# Altium integrated library Linear Technology Power Management Power Control.IntLib: 661 symbols (part 27 of 43)
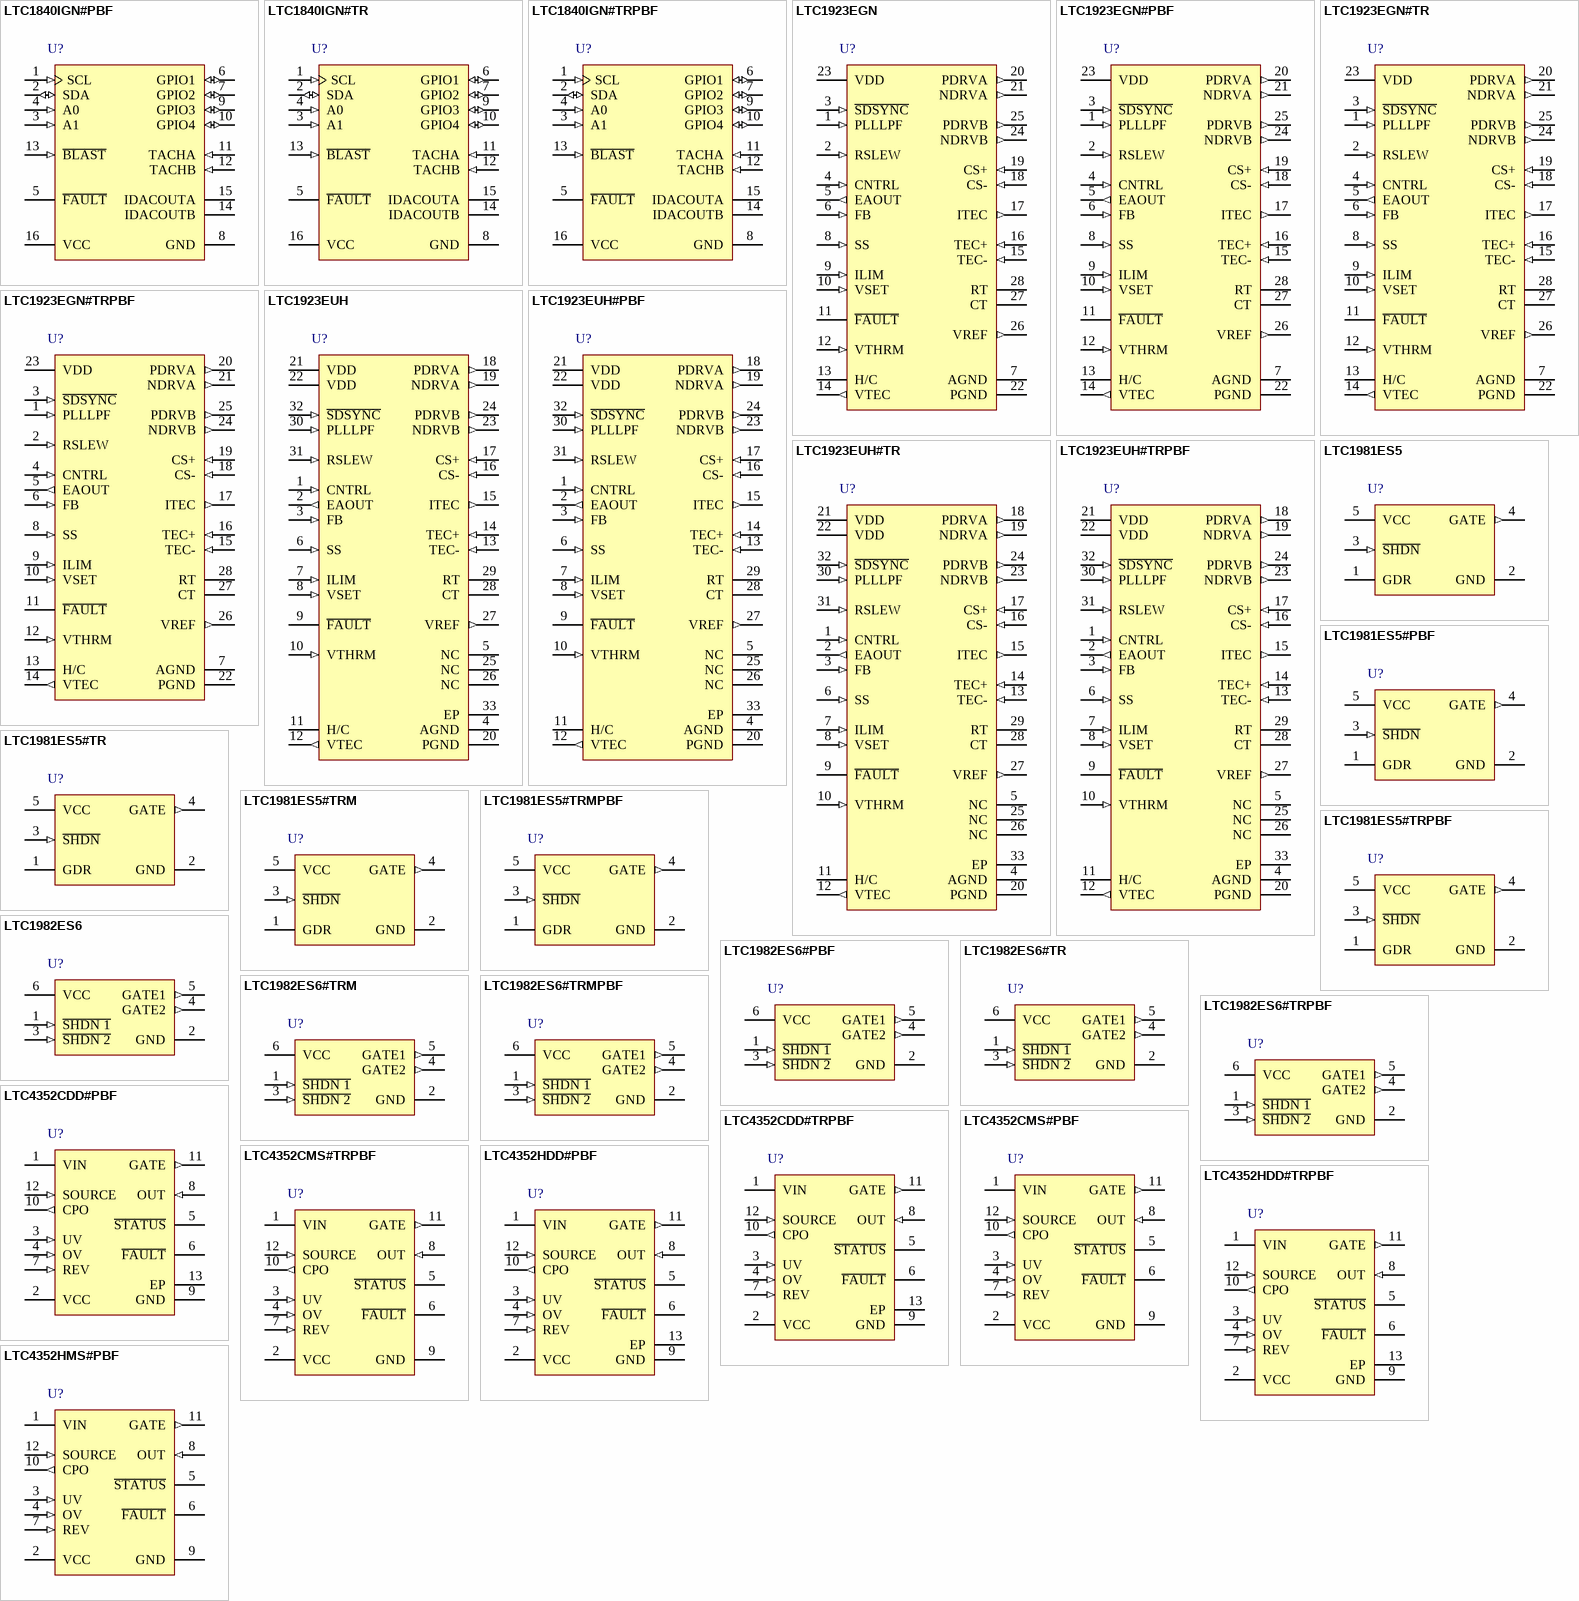
[diagram p45: symbols LTC1840IGN#PBF to LTC4352HMS#PBF]

## LTC1982ES6#PBF
designator U?
Single and Dual Micropower High Side Switch Controller, 1.8 to 5.5 V Vin, 6-pin SOT23 (S6-6), -40 to 85 degC, Pb-Free; Manufacturer: Linear Technology; PartNumber: LTC1982ES6#PBF; PackageVersion: Aug-07; PackageReference: S6-6; PackageDescription: 6-Pin Plastic SOT-23, Body 1.625 x 2.9 mm, Pitch 0.95 mm; Supplier 1: Newark; Supplier Part Number 1: 25R3032; RoHS: TRUE; Mounting Technology: Surface Mount; ComponentLink1Description: Manufacturer URL; ComponentLink1URL: http://www.linear.com/; ComponentLink2Description: Datasheet; ComponentLink2URL: http://cds.linear.com/docs/en/datasheet/19812fs.pdf; ComponentLink3Description: Package Specification; ComponentLink3URL: http://cds.linear.com/docs/en/datasheet/175435f.pdf
footprint LT-S6-6-SOT-23_N (SOT23, 6-Leads, Body 3x1.75mm, Pitch 0.95mm, IPC Medium Density)
footprint LT-S6-6-SOT-23_L (SOT23, 6-Leads, Body 3x1.75mm, Pitch 0.95mm, IPC High Density)
footprint LT-S6-6-SOT-23_M (SOT23, 6-Leads, Body 3x1.75mm, Pitch 0.95mm, IPC Low Density)
pins: 1 ~{SHDN 1} (in) "S\H\D\N\ \1\ Active Low Input. Used to shut down the GATE 1 charge pump and force the GATE 1 output pin to ground.", 2 GND (power) "Ground.", 3 ~{SHDN 2} (in) "S\H\D\N\ \2\ Active Low Input. Used to shut down the GATE 2 charge pump and force the GATE 2 output pin to ground", 4 GATE2 (out) "Gate Drive Output to an External High Side Switch. Fully enhanced by internal charge pump. Controlled by the S\H\D\N\ \2\ input pin. Output voltage on this pin will be approximately 2.5 times VCC or 7.25V, whichever is less", 5 GATE1 (out) "Gate Drive Output to an External High Side Switch. Fully enhanced by internal charge pump. Controlled by the S\H\D\N\ \1\ input pin. Output voltage on this pin will be approximately 2.5 times VCC or 7.25V, whichever is less.", 6 VCC (power) "Input Supply Voltage. Range from 1.8V to 5.5V."

## LTC1982ES6#TR
designator U?
Single and Dual Micropower High Side Switch Controller, 1.8 to 5.5 V Vin, 6-pin SOT23 (S6-6), -40 to 85 degC, Tape and Reel; Manufacturer: Linear Technology; PartNumber: LTC1982ES6#TR; PackageVersion: Aug-07; PackageReference: S6-6; PackageDescription: 6-Pin Plastic SOT-23, Body 1.625 x 2.9 mm, Pitch 0.95 mm; Supplier 1: Digi-Key; Supplier Part Number 1: LTC1982ES6#TR-ND; Supplier 2: Newark; Supplier Part Number 2: 56M4415; Packing: Tape and Reel; RoHS: FALSE; Mounting Technology: Surface Mount; ComponentLink1Description: Manufacturer URL; ComponentLink1URL: http://www.linear.com/; ComponentLink2Description: Datasheet; ComponentLink2URL: http://cds.linear.com/docs/en/datasheet/19812fs.pdf; ComponentLink3Description: Package Specification; ComponentLink3URL: http://cds.linear.com/docs/en/datasheet/175435f.pdf
footprint LT-S6-6-SOT-23_N (SOT23, 6-Leads, Body 3x1.75mm, Pitch 0.95mm, IPC Medium Density)
footprint LT-S6-6-SOT-23_L (SOT23, 6-Leads, Body 3x1.75mm, Pitch 0.95mm, IPC High Density)
footprint LT-S6-6-SOT-23_M (SOT23, 6-Leads, Body 3x1.75mm, Pitch 0.95mm, IPC Low Density)
pins: 1 ~{SHDN 1} (in) "S\H\D\N\ \1\ Active Low Input. Used to shut down the GATE 1 charge pump and force the GATE 1 output pin to ground.", 2 GND (power) "Ground.", 3 ~{SHDN 2} (in) "S\H\D\N\ \2\ Active Low Input. Used to shut down the GATE 2 charge pump and force the GATE 2 output pin to ground", 4 GATE2 (out) "Gate Drive Output to an External High Side Switch. Fully enhanced by internal charge pump. Controlled by the S\H\D\N\ \2\ input pin. Output voltage on this pin will be approximately 2.5 times VCC or 7.25V, whichever is less", 5 GATE1 (out) "Gate Drive Output to an External High Side Switch. Fully enhanced by internal charge pump. Controlled by the S\H\D\N\ \1\ input pin. Output voltage on this pin will be approximately 2.5 times VCC or 7.25V, whichever is less.", 6 VCC (power) "Input Supply Voltage. Range from 1.8V to 5.5V."

## LTC1982ES6#TRM
designator U?
Single and Dual Micropower High Side Switch Controller, 1.8 to 5.5 V Vin, 6-pin SOT23 (S6-6), -40 to 85 degC, Mini Tape and Reel; Manufacturer: Linear Technology; PartNumber: LTC1982ES6#TRM; PackageVersion: Aug-07; PackageReference: S6-6; PackageDescription: 6-Pin Plastic SOT-23, Body 1.625 x 2.9 mm, Pitch 0.95 mm; Supplier 1: Digi-Key; Supplier Part Number 1: LTC1982ES6#TRMTR-ND; Supplier 2: Digi-Key; Supplier Part Number 2: LTC1982ES6#TRMCT-ND; Packing: Mini Tape and Reel; RoHS: FALSE; Mounting Technology: Surface Mount; ComponentLink1Description: Manufacturer URL; ComponentLink1URL: http://www.linear.com/; ComponentLink2Description: Datasheet; ComponentLink2URL: http://cds.linear.com/docs/en/datasheet/19812fs.pdf; ComponentLink3Description: Package Specification; ComponentLink3URL: http://cds.linear.com/docs/en/datasheet/175435f.pdf
footprint LT-S6-6-SOT-23_N (SOT23, 6-Leads, Body 3x1.75mm, Pitch 0.95mm, IPC Medium Density)
footprint LT-S6-6-SOT-23_L (SOT23, 6-Leads, Body 3x1.75mm, Pitch 0.95mm, IPC High Density)
footprint LT-S6-6-SOT-23_M (SOT23, 6-Leads, Body 3x1.75mm, Pitch 0.95mm, IPC Low Density)
pins: 1 ~{SHDN 1} (in) "S\H\D\N\ \1\ Active Low Input. Used to shut down the GATE 1 charge pump and force the GATE 1 output pin to ground.", 2 GND (power) "Ground.", 3 ~{SHDN 2} (in) "S\H\D\N\ \2\ Active Low Input. Used to shut down the GATE 2 charge pump and force the GATE 2 output pin to ground", 4 GATE2 (out) "Gate Drive Output to an External High Side Switch. Fully enhanced by internal charge pump. Controlled by the S\H\D\N\ \2\ input pin. Output voltage on this pin will be approximately 2.5 times VCC or 7.25V, whichever is less", 5 GATE1 (out) "Gate Drive Output to an External High Side Switch. Fully enhanced by internal charge pump. Controlled by the S\H\D\N\ \1\ input pin. Output voltage on this pin will be approximately 2.5 times VCC or 7.25V, whichever is less.", 6 VCC (power) "Input Supply Voltage. Range from 1.8V to 5.5V."

## LTC1982ES6#TRMPBF
designator U?
Single and Dual Micropower High Side Switch Controller, 1.8 to 5.5 V Vin, 6-pin SOT23 (S6-6), -40 to 85 degC, Pb-Free, Mini Tape and Reel; Manufacturer: Linear Technology; PartNumber: LTC1982ES6#TRMPBF; PackageVersion: Aug-07; PackageReference: S6-6; PackageDescription: 6-Pin Plastic SOT-23, Body 1.625 x 2.9 mm, Pitch 0.95 mm; Supplier 1: Digi-Key; Supplier Part Number 1: LTC1982ES6#TRMPBFTR-ND; Supplier 2: Digi-Key; Supplier Part Number 2: LTC1982ES6#TRMPBFCT-ND; Supplier 3: Digi-Key; Supplier Part Number 3: LTC1982ES6#TRMPBFDKR-ND; Supplier 4: Newark; Supplier Part Number 4: 56M4417; Packing: Mini Tape and Reel; RoHS: TRUE; Mounting Technology: Surface Mount; ComponentLink1Description: Manufacturer URL; ComponentLink1URL: http://www.linear.com/; ComponentLink2Description: Datasheet; ComponentLink2URL: http://cds.linear.com/docs/en/datasheet/19812fs.pdf; ComponentLink3Description: Package Specification; ComponentLink3URL: http://cds.linear.com/docs/en/datasheet/175435f.pdf
footprint LT-S6-6-SOT-23_N (SOT23, 6-Leads, Body 3x1.75mm, Pitch 0.95mm, IPC Medium Density)
footprint LT-S6-6-SOT-23_L (SOT23, 6-Leads, Body 3x1.75mm, Pitch 0.95mm, IPC High Density)
footprint LT-S6-6-SOT-23_M (SOT23, 6-Leads, Body 3x1.75mm, Pitch 0.95mm, IPC Low Density)
pins: 1 ~{SHDN 1} (in) "S\H\D\N\ \1\ Active Low Input. Used to shut down the GATE 1 charge pump and force the GATE 1 output pin to ground.", 2 GND (power) "Ground.", 3 ~{SHDN 2} (in) "S\H\D\N\ \2\ Active Low Input. Used to shut down the GATE 2 charge pump and force the GATE 2 output pin to ground", 4 GATE2 (out) "Gate Drive Output to an External High Side Switch. Fully enhanced by internal charge pump. Controlled by the S\H\D\N\ \2\ input pin. Output voltage on this pin will be approximately 2.5 times VCC or 7.25V, whichever is less", 5 GATE1 (out) "Gate Drive Output to an External High Side Switch. Fully enhanced by internal charge pump. Controlled by the S\H\D\N\ \1\ input pin. Output voltage on this pin will be approximately 2.5 times VCC or 7.25V, whichever is less.", 6 VCC (power) "Input Supply Voltage. Range from 1.8V to 5.5V."

## LTC1982ES6#TRPBF
designator U?
Single and Dual Micropower High Side Switch Controller, 1.8 to 5.5 V Vin, 6-pin SOT23 (S6-6), -40 to 85 degC, Pb-Free, Tape and Reel; Manufacturer: Linear Technology; PartNumber: LTC1982ES6#TRPBF; PackageVersion: Aug-07; PackageReference: S6-6; PackageDescription: 6-Pin Plastic SOT-23, Body 1.625 x 2.9 mm, Pitch 0.95 mm; Supplier 1: Digi-Key; Supplier Part Number 1: LTC1982ES6#TRPBF-ND; Supplier 2: Newark; Supplier Part Number 2: 56M4418; Packing: Tape and Reel; RoHS: TRUE; Mounting Technology: Surface Mount; ComponentLink1Description: Manufacturer URL; ComponentLink1URL: http://www.linear.com/; ComponentLink2Description: Datasheet; ComponentLink2URL: http://cds.linear.com/docs/en/datasheet/19812fs.pdf; ComponentLink3Description: Package Specification; ComponentLink3URL: http://cds.linear.com/docs/en/datasheet/175435f.pdf
footprint LT-S6-6-SOT-23_N (SOT23, 6-Leads, Body 3x1.75mm, Pitch 0.95mm, IPC Medium Density)
footprint LT-S6-6-SOT-23_L (SOT23, 6-Leads, Body 3x1.75mm, Pitch 0.95mm, IPC High Density)
footprint LT-S6-6-SOT-23_M (SOT23, 6-Leads, Body 3x1.75mm, Pitch 0.95mm, IPC Low Density)
pins: 1 ~{SHDN 1} (in) "S\H\D\N\ \1\ Active Low Input. Used to shut down the GATE 1 charge pump and force the GATE 1 output pin to ground.", 2 GND (power) "Ground.", 3 ~{SHDN 2} (in) "S\H\D\N\ \2\ Active Low Input. Used to shut down the GATE 2 charge pump and force the GATE 2 output pin to ground", 4 GATE2 (out) "Gate Drive Output to an External High Side Switch. Fully enhanced by internal charge pump. Controlled by the S\H\D\N\ \2\ input pin. Output voltage on this pin will be approximately 2.5 times VCC or 7.25V, whichever is less", 5 GATE1 (out) "Gate Drive Output to an External High Side Switch. Fully enhanced by internal charge pump. Controlled by the S\H\D\N\ \1\ input pin. Output voltage on this pin will be approximately 2.5 times VCC or 7.25V, whichever is less.", 6 VCC (power) "Input Supply Voltage. Range from 1.8V to 5.5V."

## LTC4352CDD#PBF
designator U?
Low Voltage Ideal Diode Controller with Monitoring, 18 V Vin MAX, 12-pin SON (DD-12), 0 to 70 degC, Pb-Free; Manufacturer: Linear Technology; PartNumber: LTC4352CDD#PBF; Ideal Diode: Single, External, N-Channel; DatasheetVersion: Rev. A; PackageVersion: Rev. A, 06/2010; PackageReference: DD-12; PackageDescription: 12-Pin Plastic DFN, Body 3 x 3 mm, Pitch 0.45 mm; Supplier 1: Digi-Key; Supplier Part Number 1: LTC4352CDD#PBF-ND; Supplier 2: Farnell; Supplier Part Number 2: 1647756; Supplier 3: Newark; Supplier Part Number 3: 02P7606; RoHS: TRUE; Mounting Technology: Surface Mount; ComponentLink1Description: Manufacturer URL; ComponentLink1URL: http://www.linear.com/; ComponentLink2Description: Datasheet; ComponentLink2URL: http://cds.linear.com/docs/en/datasheet/4352fa.pdf; ComponentLink3Description: Package Specification; ComponentLink3URL: http://cds.linear.com/docs/en/packaging/DFN_12_05-08-1725.pdf
footprint LT-DD-12_V (SON, 12-Leads, Body 3x3mm, Pitch 0.45mm, Thermal Pad 2.38x1.65mm)
pins: 1 VIN (power) "Voltage Sense and Supply Input. Connect this pin to the power input side of the MOSFET. The low voltage supply VCC is generated from VIN. The voltage sensed at this pin is used to control the MOSFET gate.", 2 VCC (power) "Low Voltage Supply. Connect a 0.1uF capacitor from this pin to ground. When VIN >= 2.9V, this pin provides decoupling for an internal regulator that generates a 4.1V supply. For applications where VIN < 2.9V, connect an (See Datasheet)", 3 UV (in) "Undervoltage Comparator Input. Connect this pin to an external resistive divider from VIN. If the voltage at this pin falls below 0.5V, an undervoltage fault is detected and the MOSFET is turned off. The comparator has a (See Datasheet)", 4 OV (in) "Overvoltage Comparator Input. Connect this pin to an external resistive divider from VIN. If the voltage at this pin rises above 0.5V, an overvoltage fault is detected and the MOSFET is turned off. The comparator has a (See Datasheet)", 5 ~{STATUS} (oc) "MOSFET Status Output. This pin is pulled low by an open-drain output when the external MOSFET is on. An internal 10uA current source pulls this pin up to a diode below VCC. It may be pulled above VCC using an external (See Datasheet)", 6 ~{FAULT} (oc) "Fault Output. This pin is pulled low by an open-drain output when a fault occurs. This fault could either be an undervoltage fault, an overvoltage fault, or an open MOSFET fault. The external MOSFET is turned off for (See Datasheet)", 7 REV (in) "Reverse Current Enable Input. Connect this pin to GND for normal diode operation that blocks reverse current. Driving this pin above 1V fully turns on the MOSFET gate to allow reverse current. An internal 10uA current source (See Datasheet)", 8 OUT (in) "Output Voltage Sense Input. Connect this pin to the output side of the MOSFET. The voltage sensed at this pin is used to control the MOSFET gate.", 9 GND (power) "Device Ground.", 10 CPO (out) "Charge Pump Output. Connect a capacitor from this pin to the SOURCE pin. The value of this capacitor is approximately 10x the gate capacitance (CISS) of the MOSFET switch. The charge stored on this capacitor is used to (See Datasheet)", 11 GATE (out) "MOSFET Gate Drive Output. Connect this pin to the gate of the external N-channel MOSFET switch. An internal clamp limits the gate voltage to 6.1V above, and a diode below SOURCE. During fast turn-on a 1.5A pull-up charges (See Datasheet)", 12 SOURCE (in) "MOSFET Gate Drive Return. Connect this pin to the source of the external N-channel MOSFET switch.", 13 EP (power) "Exposed pad may be left open or connected to device ground."

## LTC4352CDD#TRPBF
designator U?
Low Voltage Ideal Diode Controller with Monitoring, 18 V Vin MAX, 12-pin SON (DD-12), 0 to 70 degC, Pb-Free, Tape and Reel; Manufacturer: Linear Technology; PartNumber: LTC4352CDD#TRPBF; Ideal Diode: Single, External, N-Channel; DatasheetVersion: Rev. A; PackageVersion: Rev. A, 06/2010; PackageReference: DD-12; PackageDescription: 12-Pin Plastic DFN, Body 3 x 3 mm, Pitch 0.45 mm; Supplier 1: Digi-Key; Supplier Part Number 1: LTC4352CDD#TRPBFTR-ND; Supplier 2: Digi-Key; Supplier Part Number 2: LTC4352CDD#TRPBFCT-ND; Supplier 3: Digi-Key; Supplier Part Number 3: LTC4352CDD#TRPBFDKR-ND; Supplier 4: Newark; Supplier Part Number 4: 02P7607; Packing: Tape and Reel; RoHS: TRUE; Mounting Technology: Surface Mount; ComponentLink1Description: Manufacturer URL; ComponentLink1URL: http://www.linear.com/; ComponentLink2Description: Datasheet; ComponentLink2URL: http://cds.linear.com/docs/en/datasheet/4352fa.pdf; ComponentLink3Description: Package Specification; ComponentLink3URL: http://cds.linear.com/docs/en/packaging/DFN_12_05-08-1725.pdf
footprint LT-DD-12_V (SON, 12-Leads, Body 3x3mm, Pitch 0.45mm, Thermal Pad 2.38x1.65mm)
pins: 1 VIN (power) "Voltage Sense and Supply Input. Connect this pin to the power input side of the MOSFET. The low voltage supply VCC is generated from VIN. The voltage sensed at this pin is used to control the MOSFET gate.", 2 VCC (power) "Low Voltage Supply. Connect a 0.1uF capacitor from this pin to ground. When VIN >= 2.9V, this pin provides decoupling for an internal regulator that generates a 4.1V supply. For applications where VIN < 2.9V, connect an (See Datasheet)", 3 UV (in) "Undervoltage Comparator Input. Connect this pin to an external resistive divider from VIN. If the voltage at this pin falls below 0.5V, an undervoltage fault is detected and the MOSFET is turned off. The comparator has a (See Datasheet)", 4 OV (in) "Overvoltage Comparator Input. Connect this pin to an external resistive divider from VIN. If the voltage at this pin rises above 0.5V, an overvoltage fault is detected and the MOSFET is turned off. The comparator has a (See Datasheet)", 5 ~{STATUS} (oc) "MOSFET Status Output. This pin is pulled low by an open-drain output when the external MOSFET is on. An internal 10uA current source pulls this pin up to a diode below VCC. It may be pulled above VCC using an external (See Datasheet)", 6 ~{FAULT} (oc) "Fault Output. This pin is pulled low by an open-drain output when a fault occurs. This fault could either be an undervoltage fault, an overvoltage fault, or an open MOSFET fault. The external MOSFET is turned off for (See Datasheet)", 7 REV (in) "Reverse Current Enable Input. Connect this pin to GND for normal diode operation that blocks reverse current. Driving this pin above 1V fully turns on the MOSFET gate to allow reverse current. An internal 10uA current source (See Datasheet)", 8 OUT (in) "Output Voltage Sense Input. Connect this pin to the output side of the MOSFET. The voltage sensed at this pin is used to control the MOSFET gate.", 9 GND (power) "Device Ground.", 10 CPO (out) "Charge Pump Output. Connect a capacitor from this pin to the SOURCE pin. The value of this capacitor is approximately 10x the gate capacitance (CISS) of the MOSFET switch. The charge stored on this capacitor is used to (See Datasheet)", 11 GATE (out) "MOSFET Gate Drive Output. Connect this pin to the gate of the external N-channel MOSFET switch. An internal clamp limits the gate voltage to 6.1V above, and a diode below SOURCE. During fast turn-on a 1.5A pull-up charges (See Datasheet)", 12 SOURCE (in) "MOSFET Gate Drive Return. Connect this pin to the source of the external N-channel MOSFET switch.", 13 EP (power) "Exposed pad may be left open or connected to device ground."

## LTC4352CMS#PBF
designator U?
Low Voltage Ideal Diode Controller with Monitoring, 18 V Vin MAX, 12-pin SOP (MS-12), 0 to 70 degC, Pb-Free; Manufacturer: Linear Technology; PartNumber: LTC4352CMS#PBF; Ideal Diode: Single, External, N-Channel; DatasheetVersion: Rev. A; PackageVersion: Rev. A, 05/2013; PackageReference: MS-12; PackageDescription: 12-Pin Plastic MSOP, Body 4.039 x 3 mm, Pitch 0.65 mm; Supplier 1: Digi-Key; Supplier Part Number 1: LTC4352CMS#PBF-ND; Supplier 2: Farnell; Supplier Part Number 2: 1647758; Supplier 3: Newark; Supplier Part Number 3: 02P7608; RoHS: TRUE; Mounting Technology: Surface Mount; ComponentLink1Description: Manufacturer URL; ComponentLink1URL: http://www.linear.com/; ComponentLink2Description: Datasheet; ComponentLink2URL: http://cds.linear.com/docs/en/datasheet/4352fa.pdf; ComponentLink3Description: Package Specification; ComponentLink3URL: http://cds.linear.com/docs/en/packaging/05081668_A_MS12.pdf
footprint LT-MS-12_N (SOP, 12-Leads, Body 4.1x3.1mm, Pitch 0.65mm, IPC Medium Density)
footprint LT-MS-12_L (SOP, 12-Leads, Body 4.1x3.1mm, Pitch 0.65mm, IPC High Density)
footprint LT-MS-12_M (SOP, 12-Leads, Body 4.1x3.1mm, Pitch 0.65mm, IPC Low Density)
pins: 1 VIN (power) "Voltage Sense and Supply Input. Connect this pin to the power input side of the MOSFET. The low voltage supply VCC is generated from VIN. The voltage sensed at this pin is used to control the MOSFET gate.", 2 VCC (power) "Low Voltage Supply. Connect a 0.1uF capacitor from this pin to ground. When VIN >= 2.9V, this pin provides decoupling for an internal regulator that generates a 4.1V supply. For applications where VIN < 2.9V, connect an (See Datasheet)", 3 UV (in) "Undervoltage Comparator Input. Connect this pin to an external resistive divider from VIN. If the voltage at this pin falls below 0.5V, an undervoltage fault is detected and the MOSFET is turned off. The comparator has a (See Datasheet)", 4 OV (in) "Overvoltage Comparator Input. Connect this pin to an external resistive divider from VIN. If the voltage at this pin rises above 0.5V, an overvoltage fault is detected and the MOSFET is turned off. The comparator has a (See Datasheet)", 5 ~{STATUS} (oc) "MOSFET Status Output. This pin is pulled low by an open-drain output when the external MOSFET is on. An internal 10uA current source pulls this pin up to a diode below VCC. It may be pulled above VCC using an external (See Datasheet)", 6 ~{FAULT} (oc) "Fault Output. This pin is pulled low by an open-drain output when a fault occurs. This fault could either be an undervoltage fault, an overvoltage fault, or an open MOSFET fault. The external MOSFET is turned off for (See Datasheet)", 7 REV (in) "Reverse Current Enable Input. Connect this pin to GND for normal diode operation that blocks reverse current. Driving this pin above 1V fully turns on the MOSFET gate to allow reverse current. An internal 10uA current source (See Datasheet)", 8 OUT (in) "Output Voltage Sense Input. Connect this pin to the output side of the MOSFET. The voltage sensed at this pin is used to control the MOSFET gate.", 9 GND (power) "Device Ground.", 10 CPO (out) "Charge Pump Output. Connect a capacitor from this pin to the SOURCE pin. The value of this capacitor is approximately 10x the gate capacitance (CISS) of the MOSFET switch. The charge stored on this capacitor is used to (See Datasheet)", 11 GATE (out) "MOSFET Gate Drive Output. Connect this pin to the gate of the external N-channel MOSFET switch. An internal clamp limits the gate voltage to 6.1V above, and a diode below SOURCE. During fast turn-on a 1.5A pull-up charges (See Datasheet)", 12 SOURCE (in) "MOSFET Gate Drive Return. Connect this pin to the source of the external N-channel MOSFET switch."

## LTC4352CMS#TRPBF
designator U?
Low Voltage Ideal Diode Controller with Monitoring, 18 V Vin MAX, 12-pin SOP (MS-12), 0 to 70 degC, Pb-Free, Tape and Reel; Manufacturer: Linear Technology; PartNumber: LTC4352CMS#TRPBF; Ideal Diode: Single, External, N-Channel; DatasheetVersion: Rev. A; PackageVersion: Rev. A, 05/2013; PackageReference: MS-12; PackageDescription: 12-Pin Plastic MSOP, Body 4.039 x 3 mm, Pitch 0.65 mm; Supplier 1: Digi-Key; Supplier Part Number 1: LTC4352CMS#TRPBF-ND; Supplier 2: Newark; Supplier Part Number 2: 02P7609; Packing: Tape and Reel; RoHS: TRUE; Mounting Technology: Surface Mount; ComponentLink1Description: Manufacturer URL; ComponentLink1URL: http://www.linear.com/; ComponentLink2Description: Datasheet; ComponentLink2URL: http://cds.linear.com/docs/en/datasheet/4352fa.pdf; ComponentLink3Description: Package Specification; ComponentLink3URL: http://cds.linear.com/docs/en/packaging/05081668_A_MS12.pdf
footprint LT-MS-12_N (SOP, 12-Leads, Body 4.1x3.1mm, Pitch 0.65mm, IPC Medium Density)
footprint LT-MS-12_L (SOP, 12-Leads, Body 4.1x3.1mm, Pitch 0.65mm, IPC High Density)
footprint LT-MS-12_M (SOP, 12-Leads, Body 4.1x3.1mm, Pitch 0.65mm, IPC Low Density)
pins: 1 VIN (power) "Voltage Sense and Supply Input. Connect this pin to the power input side of the MOSFET. The low voltage supply VCC is generated from VIN. The voltage sensed at this pin is used to control the MOSFET gate.", 2 VCC (power) "Low Voltage Supply. Connect a 0.1uF capacitor from this pin to ground. When VIN >= 2.9V, this pin provides decoupling for an internal regulator that generates a 4.1V supply. For applications where VIN < 2.9V, connect an (See Datasheet)", 3 UV (in) "Undervoltage Comparator Input. Connect this pin to an external resistive divider from VIN. If the voltage at this pin falls below 0.5V, an undervoltage fault is detected and the MOSFET is turned off. The comparator has a (See Datasheet)", 4 OV (in) "Overvoltage Comparator Input. Connect this pin to an external resistive divider from VIN. If the voltage at this pin rises above 0.5V, an overvoltage fault is detected and the MOSFET is turned off. The comparator has a (See Datasheet)", 5 ~{STATUS} (oc) "MOSFET Status Output. This pin is pulled low by an open-drain output when the external MOSFET is on. An internal 10uA current source pulls this pin up to a diode below VCC. It may be pulled above VCC using an external (See Datasheet)", 6 ~{FAULT} (oc) "Fault Output. This pin is pulled low by an open-drain output when a fault occurs. This fault could either be an undervoltage fault, an overvoltage fault, or an open MOSFET fault. The external MOSFET is turned off for (See Datasheet)", 7 REV (in) "Reverse Current Enable Input. Connect this pin to GND for normal diode operation that blocks reverse current. Driving this pin above 1V fully turns on the MOSFET gate to allow reverse current. An internal 10uA current source (See Datasheet)", 8 OUT (in) "Output Voltage Sense Input. Connect this pin to the output side of the MOSFET. The voltage sensed at this pin is used to control the MOSFET gate.", 9 GND (power) "Device Ground.", 10 CPO (out) "Charge Pump Output. Connect a capacitor from this pin to the SOURCE pin. The value of this capacitor is approximately 10x the gate capacitance (CISS) of the MOSFET switch. The charge stored on this capacitor is used to (See Datasheet)", 11 GATE (out) "MOSFET Gate Drive Output. Connect this pin to the gate of the external N-channel MOSFET switch. An internal clamp limits the gate voltage to 6.1V above, and a diode below SOURCE. During fast turn-on a 1.5A pull-up charges (See Datasheet)", 12 SOURCE (in) "MOSFET Gate Drive Return. Connect this pin to the source of the external N-channel MOSFET switch."

## LTC4352HDD#PBF
designator U?
Low Voltage Ideal Diode Controller with Monitoring, 18 V Vin MAX, 12-pin SON (DD-12), -40 to 150 degC, Pb-Free; Manufacturer: Linear Technology; PartNumber: LTC4352HDD#PBF; Ideal Diode: Single, External, N-Channel; DatasheetVersion: Rev. A; PackageVersion: Rev. A, 06/2010; PackageReference: DD-12; PackageDescription: 12-Pin Plastic DFN, Body 3 x 3 mm, Pitch 0.45 mm; Supplier 1: Digi-Key; Supplier Part Number 1: LTC4352HDD#PBF-ND; Supplier 2: Newark; Supplier Part Number 2: 27T4239; RoHS: TRUE; Mounting Technology: Surface Mount; ComponentLink1Description: Manufacturer URL; ComponentLink1URL: http://www.linear.com/; ComponentLink2Description: Datasheet; ComponentLink2URL: http://cds.linear.com/docs/en/datasheet/4352fa.pdf; ComponentLink3Description: Package Specification; ComponentLink3URL: http://cds.linear.com/docs/en/packaging/DFN_12_05-08-1725.pdf
footprint LT-DD-12_V (SON, 12-Leads, Body 3x3mm, Pitch 0.45mm, Thermal Pad 2.38x1.65mm)
pins: 1 VIN (power) "Voltage Sense and Supply Input. Connect this pin to the power input side of the MOSFET. The low voltage supply VCC is generated from VIN. The voltage sensed at this pin is used to control the MOSFET gate.", 2 VCC (power) "Low Voltage Supply. Connect a 0.1uF capacitor from this pin to ground. When VIN >= 2.9V, this pin provides decoupling for an internal regulator that generates a 4.1V supply. For applications where VIN < 2.9V, connect an (See Datasheet)", 3 UV (in) "Undervoltage Comparator Input. Connect this pin to an external resistive divider from VIN. If the voltage at this pin falls below 0.5V, an undervoltage fault is detected and the MOSFET is turned off. The comparator has a (See Datasheet)", 4 OV (in) "Overvoltage Comparator Input. Connect this pin to an external resistive divider from VIN. If the voltage at this pin rises above 0.5V, an overvoltage fault is detected and the MOSFET is turned off. The comparator has a (See Datasheet)", 5 ~{STATUS} (oc) "MOSFET Status Output. This pin is pulled low by an open-drain output when the external MOSFET is on. An internal 10uA current source pulls this pin up to a diode below VCC. It may be pulled above VCC using an external (See Datasheet)", 6 ~{FAULT} (oc) "Fault Output. This pin is pulled low by an open-drain output when a fault occurs. This fault could either be an undervoltage fault, an overvoltage fault, or an open MOSFET fault. The external MOSFET is turned off for (See Datasheet)", 7 REV (in) "Reverse Current Enable Input. Connect this pin to GND for normal diode operation that blocks reverse current. Driving this pin above 1V fully turns on the MOSFET gate to allow reverse current. An internal 10uA current source (See Datasheet)", 8 OUT (in) "Output Voltage Sense Input. Connect this pin to the output side of the MOSFET. The voltage sensed at this pin is used to control the MOSFET gate.", 9 GND (power) "Device Ground.", 10 CPO (out) "Charge Pump Output. Connect a capacitor from this pin to the SOURCE pin. The value of this capacitor is approximately 10x the gate capacitance (CISS) of the MOSFET switch. The charge stored on this capacitor is used to (See Datasheet)", 11 GATE (out) "MOSFET Gate Drive Output. Connect this pin to the gate of the external N-channel MOSFET switch. An internal clamp limits the gate voltage to 6.1V above, and a diode below SOURCE. During fast turn-on a 1.5A pull-up charges (See Datasheet)", 12 SOURCE (in) "MOSFET Gate Drive Return. Connect this pin to the source of the external N-channel MOSFET switch.", 13 EP (power) "Exposed pad may be left open or connected to device ground."

## LTC4352HDD#TRPBF
designator U?
Low Voltage Ideal Diode Controller with Monitoring, 18 V Vin MAX, 12-pin SON (DD-12), -40 to 150 degC, Pb-Free, Tape and Reel; Manufacturer: Linear Technology; PartNumber: LTC4352HDD#TRPBF; Ideal Diode: Single, External, N-Channel; DatasheetVersion: Rev. A; PackageVersion: Rev. A, 06/2010; PackageReference: DD-12; PackageDescription: 12-Pin Plastic DFN, Body 3 x 3 mm, Pitch 0.45 mm; Supplier 1: Digi-Key; Supplier Part Number 1: LTC4352HDD#TRPBF-ND; Packing: Tape and Reel; RoHS: TRUE; Mounting Technology: Surface Mount; ComponentLink1Description: Manufacturer URL; ComponentLink1URL: http://www.linear.com/; ComponentLink2Description: Datasheet; ComponentLink2URL: http://cds.linear.com/docs/en/datasheet/4352fa.pdf; ComponentLink3Description: Package Specification; ComponentLink3URL: http://cds.linear.com/docs/en/packaging/DFN_12_05-08-1725.pdf
footprint LT-DD-12_V (SON, 12-Leads, Body 3x3mm, Pitch 0.45mm, Thermal Pad 2.38x1.65mm)
pins: 1 VIN (power) "Voltage Sense and Supply Input. Connect this pin to the power input side of the MOSFET. The low voltage supply VCC is generated from VIN. The voltage sensed at this pin is used to control the MOSFET gate.", 2 VCC (power) "Low Voltage Supply. Connect a 0.1uF capacitor from this pin to ground. When VIN >= 2.9V, this pin provides decoupling for an internal regulator that generates a 4.1V supply. For applications where VIN < 2.9V, connect an (See Datasheet)", 3 UV (in) "Undervoltage Comparator Input. Connect this pin to an external resistive divider from VIN. If the voltage at this pin falls below 0.5V, an undervoltage fault is detected and the MOSFET is turned off. The comparator has a (See Datasheet)", 4 OV (in) "Overvoltage Comparator Input. Connect this pin to an external resistive divider from VIN. If the voltage at this pin rises above 0.5V, an overvoltage fault is detected and the MOSFET is turned off. The comparator has a (See Datasheet)", 5 ~{STATUS} (oc) "MOSFET Status Output. This pin is pulled low by an open-drain output when the external MOSFET is on. An internal 10uA current source pulls this pin up to a diode below VCC. It may be pulled above VCC using an external (See Datasheet)", 6 ~{FAULT} (oc) "Fault Output. This pin is pulled low by an open-drain output when a fault occurs. This fault could either be an undervoltage fault, an overvoltage fault, or an open MOSFET fault. The external MOSFET is turned off for (See Datasheet)", 7 REV (in) "Reverse Current Enable Input. Connect this pin to GND for normal diode operation that blocks reverse current. Driving this pin above 1V fully turns on the MOSFET gate to allow reverse current. An internal 10uA current source (See Datasheet)", 8 OUT (in) "Output Voltage Sense Input. Connect this pin to the output side of the MOSFET. The voltage sensed at this pin is used to control the MOSFET gate.", 9 GND (power) "Device Ground.", 10 CPO (out) "Charge Pump Output. Connect a capacitor from this pin to the SOURCE pin. The value of this capacitor is approximately 10x the gate capacitance (CISS) of the MOSFET switch. The charge stored on this capacitor is used to (See Datasheet)", 11 GATE (out) "MOSFET Gate Drive Output. Connect this pin to the gate of the external N-channel MOSFET switch. An internal clamp limits the gate voltage to 6.1V above, and a diode below SOURCE. During fast turn-on a 1.5A pull-up charges (See Datasheet)", 12 SOURCE (in) "MOSFET Gate Drive Return. Connect this pin to the source of the external N-channel MOSFET switch.", 13 EP (power) "Exposed pad may be left open or connected to device ground."

## LTC4352HMS#PBF
designator U?
Low Voltage Ideal Diode Controller with Monitoring, 18 V Vin MAX, 12-pin SOP (MS-12), -40 to 150 degC, Pb-Free; Manufacturer: Linear Technology; PartNumber: LTC4352HMS#PBF; Ideal Diode: Single, External, N-Channel; DatasheetVersion: Rev. A; PackageVersion: Rev. A, 05/2013; PackageReference: MS-12; PackageDescription: 12-Pin Plastic MSOP, Body 4.039 x 3 mm, Pitch 0.65 mm; Supplier 1: Digi-Key; Supplier Part Number 1: LTC4352HMS#PBF-ND; Supplier 2: Farnell; Supplier Part Number 2: 2295289; RoHS: TRUE; Mounting Technology: Surface Mount; ComponentLink1Description: Manufacturer URL; ComponentLink1URL: http://www.linear.com/; ComponentLink2Description: Datasheet; ComponentLink2URL: http://cds.linear.com/docs/en/datasheet/4352fa.pdf; ComponentLink3Description: Package Specification; ComponentLink3URL: http://cds.linear.com/docs/en/packaging/05081668_A_MS12.pdf
footprint LT-MS-12_N (SOP, 12-Leads, Body 4.1x3.1mm, Pitch 0.65mm, IPC Medium Density)
footprint LT-MS-12_L (SOP, 12-Leads, Body 4.1x3.1mm, Pitch 0.65mm, IPC High Density)
footprint LT-MS-12_M (SOP, 12-Leads, Body 4.1x3.1mm, Pitch 0.65mm, IPC Low Density)
pins: 1 VIN (power) "Voltage Sense and Supply Input. Connect this pin to the power input side of the MOSFET. The low voltage supply VCC is generated from VIN. The voltage sensed at this pin is used to control the MOSFET gate.", 2 VCC (power) "Low Voltage Supply. Connect a 0.1uF capacitor from this pin to ground. When VIN >= 2.9V, this pin provides decoupling for an internal regulator that generates a 4.1V supply. For applications where VIN < 2.9V, connect an (See Datasheet)", 3 UV (in) "Undervoltage Comparator Input. Connect this pin to an external resistive divider from VIN. If the voltage at this pin falls below 0.5V, an undervoltage fault is detected and the MOSFET is turned off. The comparator has a (See Datasheet)", 4 OV (in) "Overvoltage Comparator Input. Connect this pin to an external resistive divider from VIN. If the voltage at this pin rises above 0.5V, an overvoltage fault is detected and the MOSFET is turned off. The comparator has a (See Datasheet)", 5 ~{STATUS} (oc) "MOSFET Status Output. This pin is pulled low by an open-drain output when the external MOSFET is on. An internal 10uA current source pulls this pin up to a diode below VCC. It may be pulled above VCC using an external (See Datasheet)", 6 ~{FAULT} (oc) "Fault Output. This pin is pulled low by an open-drain output when a fault occurs. This fault could either be an undervoltage fault, an overvoltage fault, or an open MOSFET fault. The external MOSFET is turned off for (See Datasheet)", 7 REV (in) "Reverse Current Enable Input. Connect this pin to GND for normal diode operation that blocks reverse current. Driving this pin above 1V fully turns on the MOSFET gate to allow reverse current. An internal 10uA current source (See Datasheet)", 8 OUT (in) "Output Voltage Sense Input. Connect this pin to the output side of the MOSFET. The voltage sensed at this pin is used to control the MOSFET gate.", 9 GND (power) "Device Ground.", 10 CPO (out) "Charge Pump Output. Connect a capacitor from this pin to the SOURCE pin. The value of this capacitor is approximately 10x the gate capacitance (CISS) of the MOSFET switch. The charge stored on this capacitor is used to (See Datasheet)", 11 GATE (out) "MOSFET Gate Drive Output. Connect this pin to the gate of the external N-channel MOSFET switch. An internal clamp limits the gate voltage to 6.1V above, and a diode below SOURCE. During fast turn-on a 1.5A pull-up charges (See Datasheet)", 12 SOURCE (in) "MOSFET Gate Drive Return. Connect this pin to the source of the external N-channel MOSFET switch."

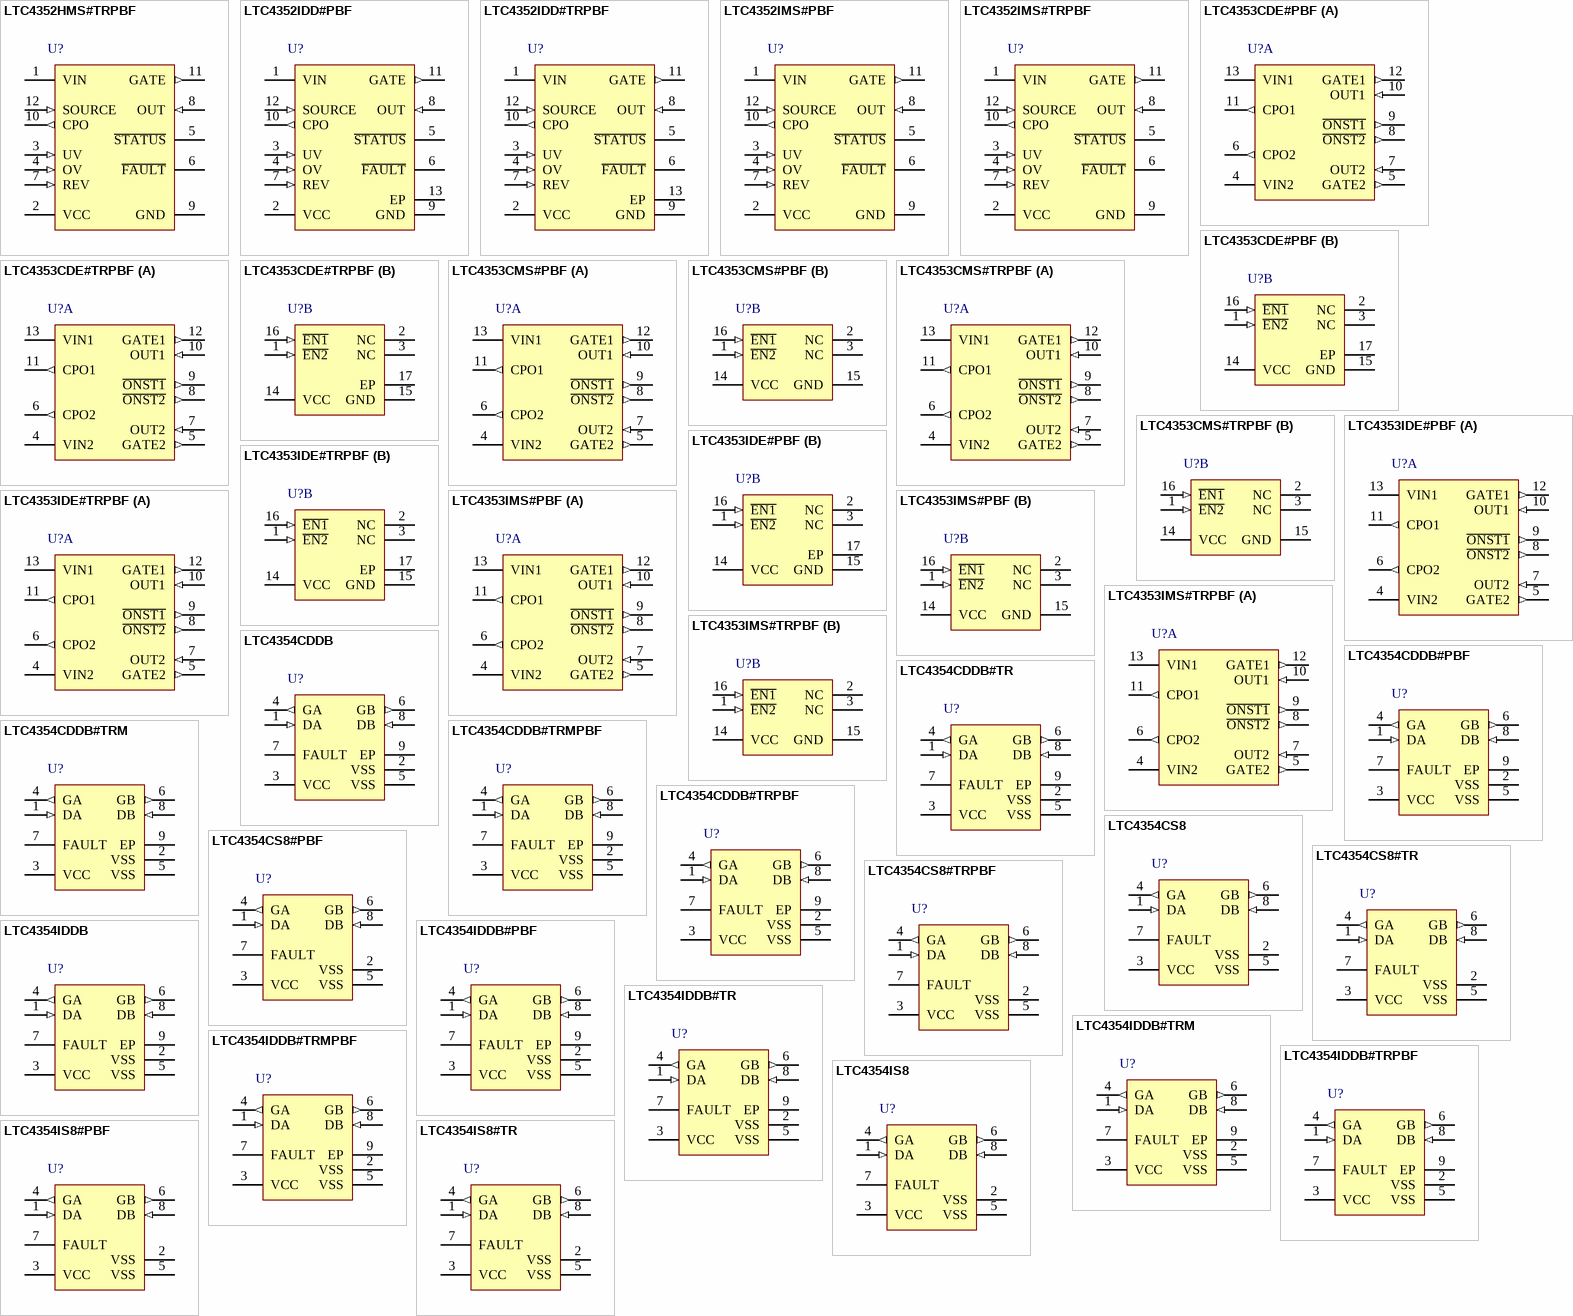
[diagram p13: symbols LTC4352HMS#TRPBF to LTC4354IS8#TR]

## LTC4352HMS#TRPBF
designator U?
Low Voltage Ideal Diode Controller with Monitoring, 18 V Vin MAX, 12-pin SOP (MS-12), -40 to 150 degC, Pb-Free, Tape and Reel; Manufacturer: Linear Technology; PartNumber: LTC4352HMS#TRPBF; Ideal Diode: Single, External, N-Channel; DatasheetVersion: Rev. A; PackageVersion: Rev. A, 05/2013; PackageReference: MS-12; PackageDescription: 12-Pin Plastic MSOP, Body 4.039 x 3 mm, Pitch 0.65 mm; Supplier 1: Digi-Key; Supplier Part Number 1: LTC4352HMS#TRPBF-ND; Packing: Tape and Reel; RoHS: TRUE; Mounting Technology: Surface Mount; ComponentLink1Description: Manufacturer URL; ComponentLink1URL: http://www.linear.com/; ComponentLink2Description: Datasheet; ComponentLink2URL: http://cds.linear.com/docs/en/datasheet/4352fa.pdf; ComponentLink3Description: Package Specification; ComponentLink3URL: http://cds.linear.com/docs/en/packaging/05081668_A_MS12.pdf
footprint LT-MS-12_N (SOP, 12-Leads, Body 4.1x3.1mm, Pitch 0.65mm, IPC Medium Density)
footprint LT-MS-12_L (SOP, 12-Leads, Body 4.1x3.1mm, Pitch 0.65mm, IPC High Density)
footprint LT-MS-12_M (SOP, 12-Leads, Body 4.1x3.1mm, Pitch 0.65mm, IPC Low Density)
pins: 1 VIN (power) "Voltage Sense and Supply Input. Connect this pin to the power input side of the MOSFET. The low voltage supply VCC is generated from VIN. The voltage sensed at this pin is used to control the MOSFET gate.", 2 VCC (power) "Low Voltage Supply. Connect a 0.1uF capacitor from this pin to ground. When VIN >= 2.9V, this pin provides decoupling for an internal regulator that generates a 4.1V supply. For applications where VIN < 2.9V, connect an (See Datasheet)", 3 UV (in) "Undervoltage Comparator Input. Connect this pin to an external resistive divider from VIN. If the voltage at this pin falls below 0.5V, an undervoltage fault is detected and the MOSFET is turned off. The comparator has a (See Datasheet)", 4 OV (in) "Overvoltage Comparator Input. Connect this pin to an external resistive divider from VIN. If the voltage at this pin rises above 0.5V, an overvoltage fault is detected and the MOSFET is turned off. The comparator has a (See Datasheet)", 5 ~{STATUS} (oc) "MOSFET Status Output. This pin is pulled low by an open-drain output when the external MOSFET is on. An internal 10uA current source pulls this pin up to a diode below VCC. It may be pulled above VCC using an external (See Datasheet)", 6 ~{FAULT} (oc) "Fault Output. This pin is pulled low by an open-drain output when a fault occurs. This fault could either be an undervoltage fault, an overvoltage fault, or an open MOSFET fault. The external MOSFET is turned off for (See Datasheet)", 7 REV (in) "Reverse Current Enable Input. Connect this pin to GND for normal diode operation that blocks reverse current. Driving this pin above 1V fully turns on the MOSFET gate to allow reverse current. An internal 10uA current source (See Datasheet)", 8 OUT (in) "Output Voltage Sense Input. Connect this pin to the output side of the MOSFET. The voltage sensed at this pin is used to control the MOSFET gate.", 9 GND (power) "Device Ground.", 10 CPO (out) "Charge Pump Output. Connect a capacitor from this pin to the SOURCE pin. The value of this capacitor is approximately 10x the gate capacitance (CISS) of the MOSFET switch. The charge stored on this capacitor is used to (See Datasheet)", 11 GATE (out) "MOSFET Gate Drive Output. Connect this pin to the gate of the external N-channel MOSFET switch. An internal clamp limits the gate voltage to 6.1V above, and a diode below SOURCE. During fast turn-on a 1.5A pull-up charges (See Datasheet)", 12 SOURCE (in) "MOSFET Gate Drive Return. Connect this pin to the source of the external N-channel MOSFET switch."

## LTC4352IDD#PBF
designator U?
Low Voltage Ideal Diode Controller with Monitoring, 18 V Vin MAX, 12-pin SON (DD-12), -40 to 85 degC, Pb-Free; Manufacturer: Linear Technology; PartNumber: LTC4352IDD#PBF; Ideal Diode: Single, External, N-Channel; DatasheetVersion: Rev. A; PackageVersion: Rev. A, 06/2010; PackageReference: DD-12; PackageDescription: 12-Pin Plastic DFN, Body 3 x 3 mm, Pitch 0.45 mm; Supplier 1: Digi-Key; Supplier Part Number 1: LTC4352IDD#PBF-ND; Supplier 2: Farnell; Supplier Part Number 2: 1647759; Supplier 3: Newark; Supplier Part Number 3: 02P7610; RoHS: TRUE; Mounting Technology: Surface Mount; ComponentLink1Description: Manufacturer URL; ComponentLink1URL: http://www.linear.com/; ComponentLink2Description: Datasheet; ComponentLink2URL: http://cds.linear.com/docs/en/datasheet/4352fa.pdf; ComponentLink3Description: Package Specification; ComponentLink3URL: http://cds.linear.com/docs/en/packaging/DFN_12_05-08-1725.pdf
footprint LT-DD-12_V (SON, 12-Leads, Body 3x3mm, Pitch 0.45mm, Thermal Pad 2.38x1.65mm)
pins: 1 VIN (power) "Voltage Sense and Supply Input. Connect this pin to the power input side of the MOSFET. The low voltage supply VCC is generated from VIN. The voltage sensed at this pin is used to control the MOSFET gate.", 2 VCC (power) "Low Voltage Supply. Connect a 0.1uF capacitor from this pin to ground. When VIN >= 2.9V, this pin provides decoupling for an internal regulator that generates a 4.1V supply. For applications where VIN < 2.9V, connect an (See Datasheet)", 3 UV (in) "Undervoltage Comparator Input. Connect this pin to an external resistive divider from VIN. If the voltage at this pin falls below 0.5V, an undervoltage fault is detected and the MOSFET is turned off. The comparator has a (See Datasheet)", 4 OV (in) "Overvoltage Comparator Input. Connect this pin to an external resistive divider from VIN. If the voltage at this pin rises above 0.5V, an overvoltage fault is detected and the MOSFET is turned off. The comparator has a (See Datasheet)", 5 ~{STATUS} (oc) "MOSFET Status Output. This pin is pulled low by an open-drain output when the external MOSFET is on. An internal 10uA current source pulls this pin up to a diode below VCC. It may be pulled above VCC using an external (See Datasheet)", 6 ~{FAULT} (oc) "Fault Output. This pin is pulled low by an open-drain output when a fault occurs. This fault could either be an undervoltage fault, an overvoltage fault, or an open MOSFET fault. The external MOSFET is turned off for (See Datasheet)", 7 REV (in) "Reverse Current Enable Input. Connect this pin to GND for normal diode operation that blocks reverse current. Driving this pin above 1V fully turns on the MOSFET gate to allow reverse current. An internal 10uA current source (See Datasheet)", 8 OUT (in) "Output Voltage Sense Input. Connect this pin to the output side of the MOSFET. The voltage sensed at this pin is used to control the MOSFET gate.", 9 GND (power) "Device Ground.", 10 CPO (out) "Charge Pump Output. Connect a capacitor from this pin to the SOURCE pin. The value of this capacitor is approximately 10x the gate capacitance (CISS) of the MOSFET switch. The charge stored on this capacitor is used to (See Datasheet)", 11 GATE (out) "MOSFET Gate Drive Output. Connect this pin to the gate of the external N-channel MOSFET switch. An internal clamp limits the gate voltage to 6.1V above, and a diode below SOURCE. During fast turn-on a 1.5A pull-up charges (See Datasheet)", 12 SOURCE (in) "MOSFET Gate Drive Return. Connect this pin to the source of the external N-channel MOSFET switch.", 13 EP (power) "Exposed pad may be left open or connected to device ground."

## LTC4352IDD#TRPBF
designator U?
Low Voltage Ideal Diode Controller with Monitoring, 18 V Vin MAX, 12-pin SON (DD-12), -40 to 85 degC, Pb-Free, Tape and Reel; Manufacturer: Linear Technology; PartNumber: LTC4352IDD#TRPBF; Ideal Diode: Single, External, N-Channel; DatasheetVersion: Rev. A; PackageVersion: Rev. A, 06/2010; PackageReference: DD-12; PackageDescription: 12-Pin Plastic DFN, Body 3 x 3 mm, Pitch 0.45 mm; Supplier 1: Digi-Key; Supplier Part Number 1: LTC4352IDD#TRPBF-ND; Supplier 2: Newark; Supplier Part Number 2: 02P7611; Packing: Tape and Reel; RoHS: TRUE; Mounting Technology: Surface Mount; ComponentLink1Description: Manufacturer URL; ComponentLink1URL: http://www.linear.com/; ComponentLink2Description: Datasheet; ComponentLink2URL: http://cds.linear.com/docs/en/datasheet/4352fa.pdf; ComponentLink3Description: Package Specification; ComponentLink3URL: http://cds.linear.com/docs/en/packaging/DFN_12_05-08-1725.pdf
footprint LT-DD-12_V (SON, 12-Leads, Body 3x3mm, Pitch 0.45mm, Thermal Pad 2.38x1.65mm)
pins: 1 VIN (power) "Voltage Sense and Supply Input. Connect this pin to the power input side of the MOSFET. The low voltage supply VCC is generated from VIN. The voltage sensed at this pin is used to control the MOSFET gate.", 2 VCC (power) "Low Voltage Supply. Connect a 0.1uF capacitor from this pin to ground. When VIN >= 2.9V, this pin provides decoupling for an internal regulator that generates a 4.1V supply. For applications where VIN < 2.9V, connect an (See Datasheet)", 3 UV (in) "Undervoltage Comparator Input. Connect this pin to an external resistive divider from VIN. If the voltage at this pin falls below 0.5V, an undervoltage fault is detected and the MOSFET is turned off. The comparator has a (See Datasheet)", 4 OV (in) "Overvoltage Comparator Input. Connect this pin to an external resistive divider from VIN. If the voltage at this pin rises above 0.5V, an overvoltage fault is detected and the MOSFET is turned off. The comparator has a (See Datasheet)", 5 ~{STATUS} (oc) "MOSFET Status Output. This pin is pulled low by an open-drain output when the external MOSFET is on. An internal 10uA current source pulls this pin up to a diode below VCC. It may be pulled above VCC using an external (See Datasheet)", 6 ~{FAULT} (oc) "Fault Output. This pin is pulled low by an open-drain output when a fault occurs. This fault could either be an undervoltage fault, an overvoltage fault, or an open MOSFET fault. The external MOSFET is turned off for (See Datasheet)", 7 REV (in) "Reverse Current Enable Input. Connect this pin to GND for normal diode operation that blocks reverse current. Driving this pin above 1V fully turns on the MOSFET gate to allow reverse current. An internal 10uA current source (See Datasheet)", 8 OUT (in) "Output Voltage Sense Input. Connect this pin to the output side of the MOSFET. The voltage sensed at this pin is used to control the MOSFET gate.", 9 GND (power) "Device Ground.", 10 CPO (out) "Charge Pump Output. Connect a capacitor from this pin to the SOURCE pin. The value of this capacitor is approximately 10x the gate capacitance (CISS) of the MOSFET switch. The charge stored on this capacitor is used to (See Datasheet)", 11 GATE (out) "MOSFET Gate Drive Output. Connect this pin to the gate of the external N-channel MOSFET switch. An internal clamp limits the gate voltage to 6.1V above, and a diode below SOURCE. During fast turn-on a 1.5A pull-up charges (See Datasheet)", 12 SOURCE (in) "MOSFET Gate Drive Return. Connect this pin to the source of the external N-channel MOSFET switch.", 13 EP (power) "Exposed pad may be left open or connected to device ground."